# Altium schematic symbol library SnapEDAsch.SchLib: 1 symbol
Pins are listed as number, name and electrical type; pins without a type are passive.

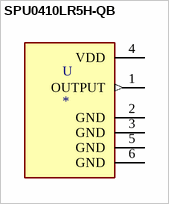
[diagram p0: symbol SPU0410LR5H-QB]

## SPU0410LR5H-QB
designator U
100Hz ~ 80kHz Analog Microphone MEMS _Silicon_ 1.5V ~ 3.6V Omnidirectional _-38dB Â±3dB @ 94dB SPL_ Solder Pads; MF: Knowles; MP: SPU0410LR5H-QB; Price: None; Value: *; Package: 2010 Knowles Acoustics; SnapEDA_Link: https://www.snapeda.com/parts/SPU0410LR5H-QB/Knowles/view-part/48340/?ref=snap; Availability: Unavailable
footprint XDCR_SPU0410LR5H-QB
pins: 1 OUTPUT (out), 2 GND (power), 3 GND (power), 4 VDD (power), 5 GND (power), 6 GND (power)